# EAGLE library part BTM400_6B (library AniBike_Common_Library)
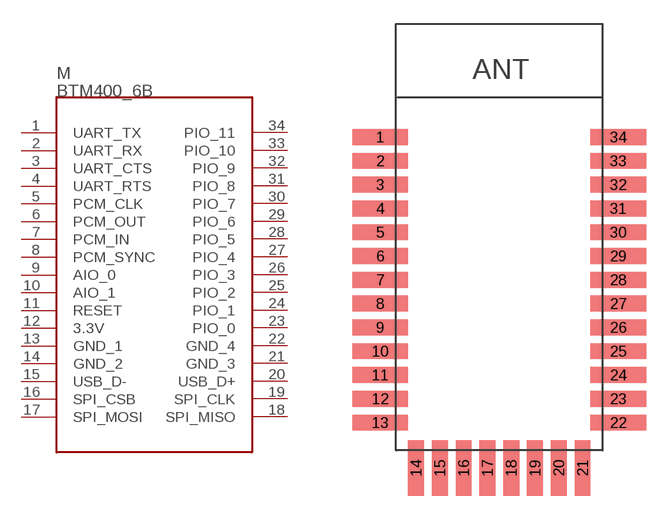
[diagram p13: symbol with the pads of BTM400_6B; footprint BTM400_6B]

Designator prefix M

## BTM400_6BBTM400_6B  [BTM400_6B]
1  UART_TX
2  UART_RX
3  UART_CTS
4  UART_RTS
5  PCM_CLK
6  PCM_OUT
7  PCM_IN
8  PCM_SYNC
9  AIO_0
10  AIO_1
11  RESET
12  3.3V
13  GND_1
14  GND_2
15  USB_D-
16  SPI_CSB
17  SPI_MOSI
18  SPI_MISO
19  SPI_CLK
20  USB_D+
21  GND_3
22  GND_4
23  PIO_0
24  PIO_1
25  PIO_2
26  PIO_3
27  PIO_4
28  PIO_5
29  PIO_6
30  PIO_7
31  PIO_8
32  PIO_9
33  PIO_10
34  PIO_11

## Footprint BTM400_6B (pad centres in mm)
smd 3.5 x 1: 1 -7.4,7.66; 2 -7.4,6.16; 3 -7.4,4.66; 4 -7.4,3.16; 5 -7.4,1.66; 6 -7.4,0.16; 7 -7.4,-1.34; 8 -7.4,-2.84; 9 -7.4,-4.34; 10 -7.4,-5.84; 11 -7.4,-7.34; 12 -7.4,-8.84; 13 -7.4,-10.34; 22 7.6,-10.34; 23 7.6,-8.84; 24 7.6,-7.34; 25 7.6,-5.84; 26 7.6,-4.34; 27 7.6,-2.84; 28 7.6,-1.34; 29 7.6,0.16; 30 7.6,1.66; 31 7.6,3.16; 32 7.6,4.66; 33 7.6,6.16; 34 7.6,7.66
smd 1 x 3.5: 14 -5.15,-13.2; 15 -3.65,-13.2; 16 -2.15,-13.2; 17 -0.65,-13.2; 18 0.85,-13.2; 19 2.35,-13.2; 20 3.85,-13.2; 21 5.35,-13.2